# Altium footprint library INDC2520X100.PcbLib: 1 footprints
Each footprint in its own frame and in the unit in brackets; x right, y up, seen from the top. Pads: shape width x height; smd on the part's side, far side on the other; paste and mask are expansions set on the pad; w line width, h text height; cw(c..) or ccw(c..) is an arc to the next point about the centre after c.
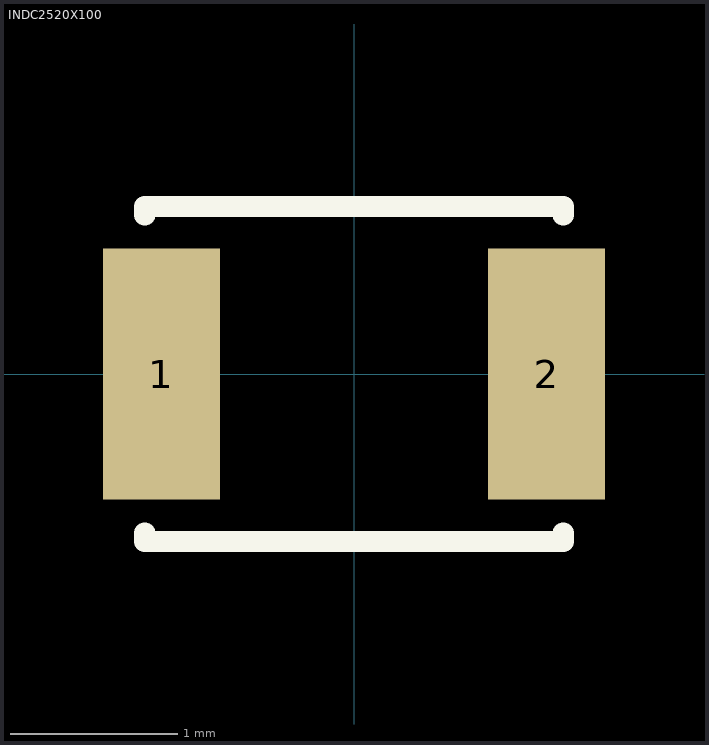
[diagram p0: the footprint, top view; thin cyan lines are the x and y axes]

## INDC2520X100 [mm]
pads (2):
  rect 0.7x1.5 smd: 1(-1.15,0) 2(1.15,0)
Top Overlay:
  lines w0.127: -1.25,-0.95 -1.25,-1 1.25,-1 1.25,-0.95 ; -1.25,0.95 -1.25,1 1.25,1 1.25,0.95